# EAGLE library part PINHD-2X18 (library SquantorConnectors)
PIN HEADER
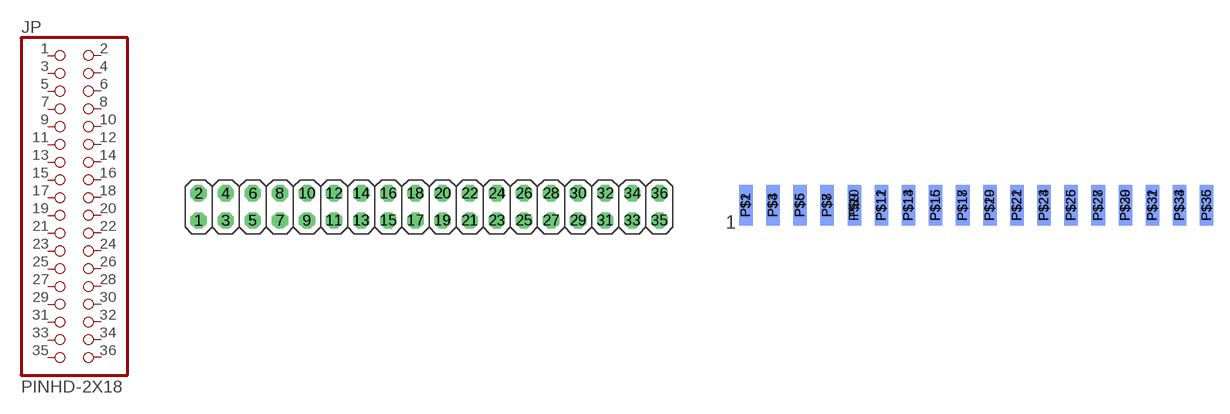
[diagram p4: symbol with the pads of 2X18; footprints 2X18, 2X18SIDE]

Designator prefix JP

## PINHD-2X18THROUGHHOLE  [2X18]
1  1  pas
2  2  pas
3  3  pas
4  4  pas
5  5  pas
6  6  pas
7  7  pas
8  8  pas
9  9  pas
10  10  pas
11  11  pas
12  12  pas
13  13  pas
14  14  pas
15  15  pas
16  16  pas
17  17  pas
18  18  pas
19  19  pas
20  20  pas
21  21  pas
22  22  pas
23  23  pas
24  24  pas
25  25  pas
26  26  pas
27  27  pas
28  28  pas
29  29  pas
30  30  pas
31  31  pas
32  32  pas
33  33  pas
34  34  pas
35  35  pas
36  36  pas

## PINHD-2X18SMD_SIDE  [2X18SIDE]
P$1  1  pas
P$2  2  pas
P$3  3  pas
P$4  4  pas
P$5  5  pas
P$6  6  pas
P$7  7  pas
P$8  8  pas
P$9  9  pas
P$10  10  pas
P$11  11  pas
P$12  12  pas
P$13  13  pas
P$14  14  pas
P$15  15  pas
P$16  16  pas
P$17  17  pas
P$18  18  pas
P$19  19  pas
P$20  20  pas
P$21  21  pas
P$22  22  pas
P$23  23  pas
P$24  24  pas
P$25  25  pas
P$26  26  pas
P$27  27  pas
P$28  28  pas
P$29  29  pas
P$30  30  pas
P$31  31  pas
P$32  32  pas
P$33  33  pas
P$34  34  pas
P$35  35  pas
P$36  36  pas

## Footprint 2X18 (pad centres in mm)
PIN HEADER
drill 1.016 octagon: 1 -21.59,-1.27; 2 -21.59,1.27; 3 -19.05,-1.27; 4 -19.05,1.27; 5 -16.51,-1.27; 6 -16.51,1.27; 7 -13.97,-1.27; 8 -13.97,1.27; 9 -11.43,-1.27; 10 -11.43,1.27; 11 -8.89,-1.27; 12 -8.89,1.27; 13 -6.35,-1.27; 14 -6.35,1.27; 15 -3.81,-1.27; 16 -3.81,1.27; 17 -1.27,-1.27; 18 -1.27,1.27; 19 1.27,-1.27; 20 1.27,1.27; 21 3.81,-1.27; 22 3.81,1.27; 23 6.35,-1.27; 24 6.35,1.27; 25 8.89,-1.27; 26 8.89,1.27; 27 11.43,-1.27; 28 11.43,1.27; 29 13.97,-1.27; 30 13.97,1.27; 31 16.51,-1.27; 32 16.51,1.27; 33 19.05,-1.27; 34 19.05,1.27; 35 21.59,-1.27; 36 21.59,1.27

## Footprint 2X18SIDE (pad centres in mm)
smd 1.27 x 3.81: P$1 -21.59,0; P$3 -19.05,0; P$5 -16.51,0; P$7 -13.97,0; P$9 -11.43,0; P$11 -8.89,0; P$13 -6.35,0; P$15 -3.81,0; P$17 -1.27,0; P$19 1.27,0; P$21 3.81,0; P$23 6.35,0; P$25 8.89,0; P$27 11.43,0; P$29 13.97,0; P$31 16.51,0; P$33 19.05,0; P$35 21.59,0
smd 1.27 x 3.81 bottom: P$2 -21.59,0; P$4 -19.05,0; P$6 -16.51,0; P$8 -13.97,0; P$10 -11.43,0; P$12 -8.89,0; P$14 -6.35,0; P$16 -3.81,0; P$18 -1.27,0; P$20 1.27,0; P$22 3.81,0; P$24 6.35,0; P$26 8.89,0; P$28 11.43,0; P$30 13.97,0; P$32 16.51,0; P$34 19.05,0; P$36 21.59,0